# EAGLE library part STM32F373CBT6 (library stm32)
IC MCU 32BIT 128KB FLASH 48LQFP
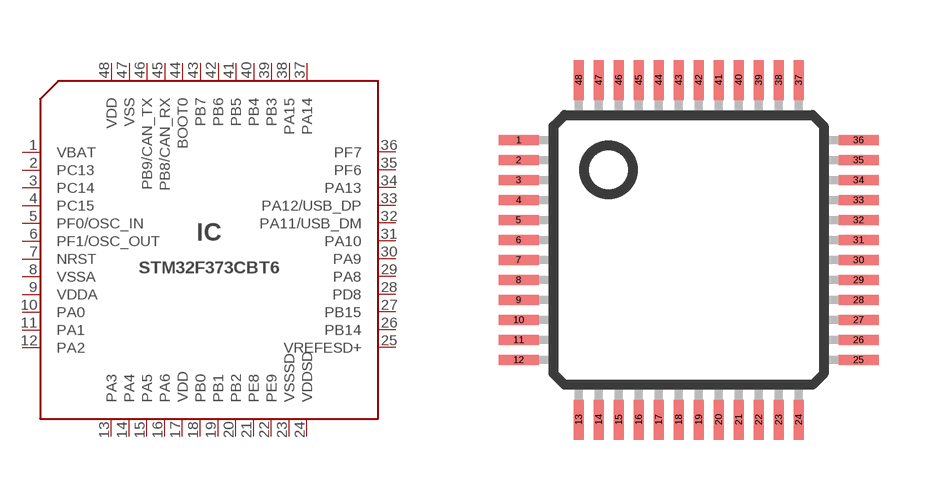
[diagram p10: symbol with the pads of LQFP48; footprint LQFP48]

Designator prefix IC

## STM32F373CBT6-LQFP48 (DIGIKEY#: 497-13309-ND; MANF: STMicroelectronics; MANF#: STM32F373CBT6)  [LQFP48]
1  VBAT
2  PC13
3  PC14
4  PC15
5  PF0/OSC_IN
6  PF1/OSC_OUT
7  NRST
8  VSSA
9  VDDA
10  PA0
11  PA1
12  PA2
13  PA3
14  PA4
15  PA5
16  PA6
17  VDD
18  PB0
19  PB1
20  PB2
21  PE8
22  PE9
23  VSSSD
24  VDDSD
25  VREFESD+
26  PB14
27  PB15
28  PD8
29  PA8
30  PA9
31  PA10
32  PA11/USB_DM
33  PA12/USB_DP
34  PA13
35  PF6
36  PF7
37  PA14
38  PA15
39  PB3
40  PB4
41  PB5
42  PB6
43  PB7
44  BOOT0
45  PB8/CAN_RX
46  PB9/CAN_TX
47  VSS
48  VDD

## Footprint LQFP48 (pad centres in mm)
48-pin plastic LQFP (FPT-48P-M26) www.fma.fujitsu.com/pdf/e713717.pdf
smd 1 x 0.25: 1 -4.25,2.75; 2 -4.25,2.25; 3 -4.25,1.75; 4 -4.25,1.25; 5 -4.25,0.75; 6 -4.25,0.25; 7 -4.25,-0.25; 8 -4.25,-0.75; 9 -4.25,-1.25; 10 -4.25,-1.75; 11 -4.25,-2.25; 12 -4.25,-2.75; 25 4.25,-2.75; 26 4.25,-2.25; 27 4.25,-1.75; 28 4.25,-1.25; 29 4.25,-0.75; 30 4.25,-0.25; 31 4.25,0.25; 32 4.25,0.75; 33 4.25,1.25; 34 4.25,1.75; 35 4.25,2.25; 36 4.25,2.75
smd 0.25 x 1: 13 -2.75,-4.25; 14 -2.25,-4.25; 15 -1.75,-4.25; 16 -1.25,-4.25; 17 -0.75,-4.25; 18 -0.25,-4.25; 19 0.25,-4.25; 20 0.75,-4.25; 21 1.25,-4.25; 22 1.75,-4.25; 23 2.25,-4.25; 24 2.75,-4.25; 37 2.75,4.25; 38 2.25,4.25; 39 1.75,4.25; 40 1.25,4.25; 41 0.75,4.25; 42 0.25,4.25; 43 -0.25,4.25; 44 -0.75,4.25; 45 -1.25,4.25; 46 -1.75,4.25; 47 -2.25,4.25; 48 -2.75,4.25